# EAGLE library part LTC1540 (library EPL)
Nanopower Comparator with Reference
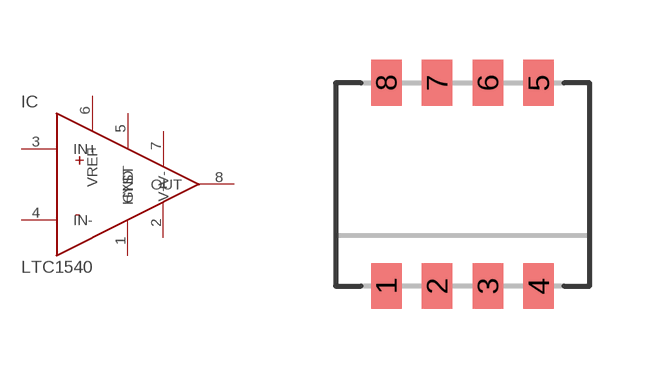
[diagram p0: symbol with the pads of PSO; footprint PSO]

Designator prefix IC

## LTC1540  [PSO]
1  GND
2  V-
3  IN+
4  IN-
5  HYST
6  VREF
7  V+
8  OUT

## Footprint PSO (pad centres in mm)
smd 0.762 x 1.143: 1 -1.905,-2.54; 2 -0.635,-2.54; 3 0.635,-2.54; 4 1.905,-2.54; 5 1.905,2.54; 6 0.635,2.54; 7 -0.635,2.54; 8 -1.905,2.54